# Altium footprint library SO6-5.PcbLib: 1 footprints
Each footprint in its own frame and in the unit in brackets; x right, y up, seen from the top. Pads: shape width x height; smd on the part's side, far side on the other; paste and mask are expansions set on the pad; w line width, h text height; cw(c..) or ccw(c..) is an arc to the next point about the centre after c.
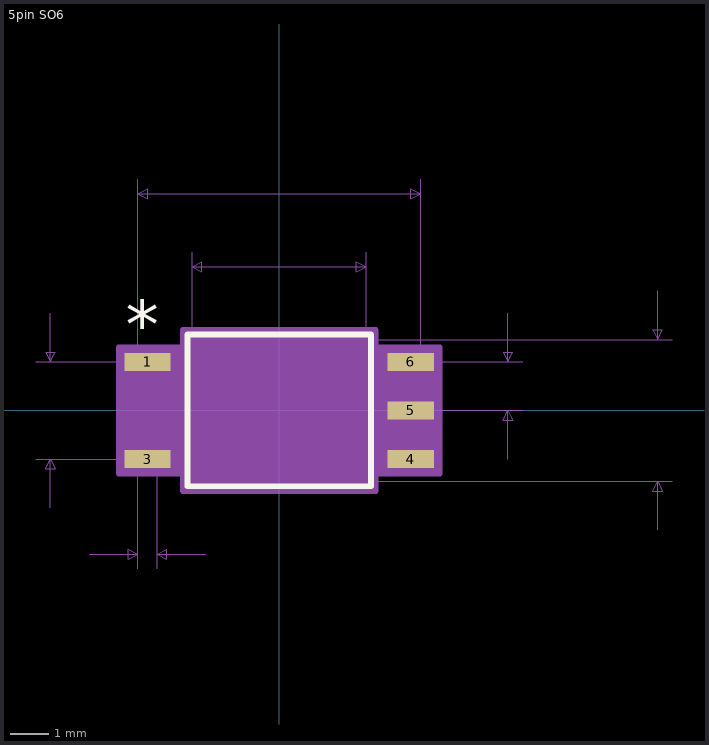
[diagram p0: the footprint, top view; thin cyan lines are the x and y axes]

## 5pin SO6 [mil]
pads (5):
  rect 47.56x18.36 smd paste+0 mask+0: 1(-135.5,50) 3(-135.5,-50) 4(135.5,-50) 5(135.5,0) 6(135.5,50)
Top Overlay:
  lines w6: -94.5,-78 -94.5,78 94.5,78 94.5,-78 -94.5,-78
  text "*" at -158,63.36 h50
Mechanical 7:
  lines w1: -250.5,-50 -135.5,-50 ; -250.5,50 -135.5,50 ; -235.5,-100 -235.5,-50 ; -235.5,100 -235.5,50 ; -195.5,-148 -145.5,-148 ; -145.5,-163 -145.5,0 -145.5,238 ; -125.5,-163 -125.5,0 ; -89.5,0 -89.5,163 ; -75.5,-148 -125.5,-148 ; 0,-73 404.5,-73 ; 0,73 404.5,73 ; 89.5,0 89.5,163 ; 135.5,0 250.5,0 ; 135.5,50 250.5,50 ; 145.5,0 145.5,238 ; 235.5,-50 235.5,0 ; 235.5,100 235.5,50 ; 389.5,-123 389.5,-73 ; 389.5,123 389.5,73 ; -235.5,-50 -230.5,-60 -240.5,-60 -235.5,-50 ; -235.5,50 -230.5,60 -240.5,60 -235.5,50 ; -145.5,-148 -155.5,-153 -155.5,-143 -145.5,-148 ; -145.5,223 -135.5,218 -135.5,228 -145.5,223 ; -145.5,223 145.5,223 ; -125.5,-148 -115.5,-153 -115.5,-143 -125.5,-148 ; -89.5,148 -79.5,143 -79.5,153 -89.5,148 ; -89.5,148 89.5,148 ; 89.5,148 79.5,143 79.5,153 89.5,148 ; 145.5,223 135.5,218 135.5,228 145.5,223 ; 235.5,0 240.5,-10 230.5,-10 235.5,0 ; 235.5,50 240.5,60 230.5,60 235.5,50 ; 389.5,-73 394.5,-83 384.5,-83 389.5,-73 ; 389.5,73 394.5,83 384.5,83 389.5,73
  text "0.02in/0.508mm" at -223,-193 h25
  text "0.05in/1.27mm" at 255.5,12.5 h25
  text "0.1in/2.54mm" at -405.5,-12.5 h25
  text "0.146in/3.708mm" at 409.5,-12.5 h25
  text "0.291in/7.391mm" at -93.75,243 h25
  text "0.179in/4.547mm" at -93.75,168 h25
  text "Alt 2 Padstyle: OX90Y60D30P" at -337.5,-573 h50
  text "Alt 1 Padstyle: OX60Y90D30P" at -337.5,-513 h50
  text "Default Padstyle: RX47p56Y18p36D0T" at -425,-273 h50
  text "Pin One Padstyle: RX47p56Y18p36D0T" at -425,-333 h50
Mechanical 13:
  lines w0: -12,73 ccw(c0,73) 12,73
  lines w1: -145.5,-58 -89.5,-58 -89.5,-42 -145.5,-42 -145.5,-58 ; -145.5,42 -89.5,42 -89.5,58 -145.5,58 -145.5,42 ; -89.5,-73 -89.5,73 89.5,73 89.5,-73 -89.5,-73 ; 89.5,-58 145.5,-58 145.5,-42 89.5,-42 89.5,-58 ; 89.5,-8 145.5,-8 145.5,8 89.5,8 89.5,-8 ; 89.5,42 145.5,42 145.5,58 89.5,58 89.5,42
  text "*" at -92,20.36 h50
Mechanical 15:
  region: 99.34,-82.84 -99.34,-82.84 -99.34,-64.76 -165.18,-64.76 -165.18,64.76 -99.34,64.76 -99.34,82.84 99.34,82.84 99.34,64.76 165.18,64.76 165.18,-64.76 99.34,-64.76
  lines w6: -165.18,-64.76 -165.18,64.76 -99.34,64.76 -99.34,82.84 99.34,82.84 99.34,64.76 165.18,64.76 165.18,-64.76 99.34,-64.76 99.34,-82.84 -99.34,-82.84 -99.34,-64.76 -165.18,-64.76
3D body "5pin SO6.STEP": height 86.61, standoff 0, extent -137.79,-72.84 137.8,72.84
3D body: height 10, standoff 0, extent 65,20 75,30